# Altium schematic symbol library SnapEDAsch.SchLib: 1 symbol
Pins are listed as number, name and electrical type; pins without a type are passive.

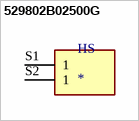
[diagram p0: symbol 529802B02500G]

## 529802B02500G
designator HS
Heat Sink TO-220 Aluminum 10.0W @ 50Â°C Board Level, Vertical; MP: 529802B02500G; MF: Aavid, Thermal; Digi-Key_Part_Number: HS350-ND; Package: Heat Sink Aavid, Thermal Division of Boyd Corporation; Value: *; SnapEDA_Link: https://www.snapeda.com/parts/529802B02500G/Aavid%2C%20Thermal%20Division%20of%20Boyd%20Corporation/view-part/273010/?ref=snap; Digi-Key_Purchase_URL: https://www.digikey.com/product-detail/en/aavid-thermal-division-of-boyd-corporation/529802B02500G/HS350-ND/1216357?utm_source=snapeda&utm_medium=aggregator&utm_campaign=symbol
footprint HSINK_529802B02500G
pins: S1 1, S2 1